# EAGLE library part BMI088 (library FaBo-Mems)
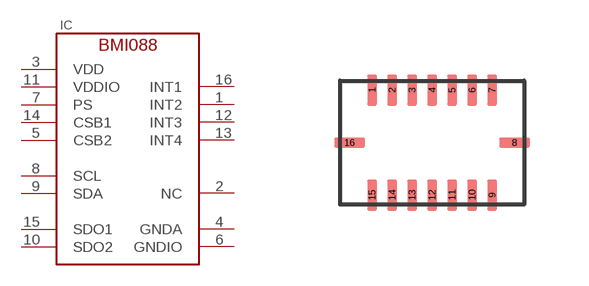
[diagram p42: symbol with the pads of BMI088; footprint BMI088]

Designator prefix IC

## BMI088  [BMI088]
1  INT2
2  NC
3  VDD
4  GNDA
5  CSB2
6  GNDIO
7  PS
8  SCL
9  SDA
10  SDO2
11  VDDIO
12  INT3
13  INT4
14  CSB1
15  SDO1
16  INT1

## Footprint BMI088 (pad centres in mm)
smd 0.25 x 0.775: 1 -1.5,1.312; 2 -1,1.312; 3 -0.5,1.312; 4 0,1.312; 5 0.5,1.312; 6 1,1.312; 7 1.5,1.312; 9 1.5,-1.312; 10 1,-1.312; 11 0.5,-1.312; 12 0,-1.312; 13 -0.5,-1.312; 14 -1,-1.312; 15 -1.5,-1.312
smd 0.775 x 0.25: 8 2.062,0; 16 -2.062,0